# Altium footprint library 691 244 710 0xx.PcbLib: 7 footprints
Each footprint in its own frame and in the unit in brackets; x right, y up, seen from the top. Pads: shape width x height; smd on the part's side, far side on the other; paste and mask are expansions set on the pad; w line width, h text height; cw(c..) or ccw(c..) is an arc to the next point about the centre after c.
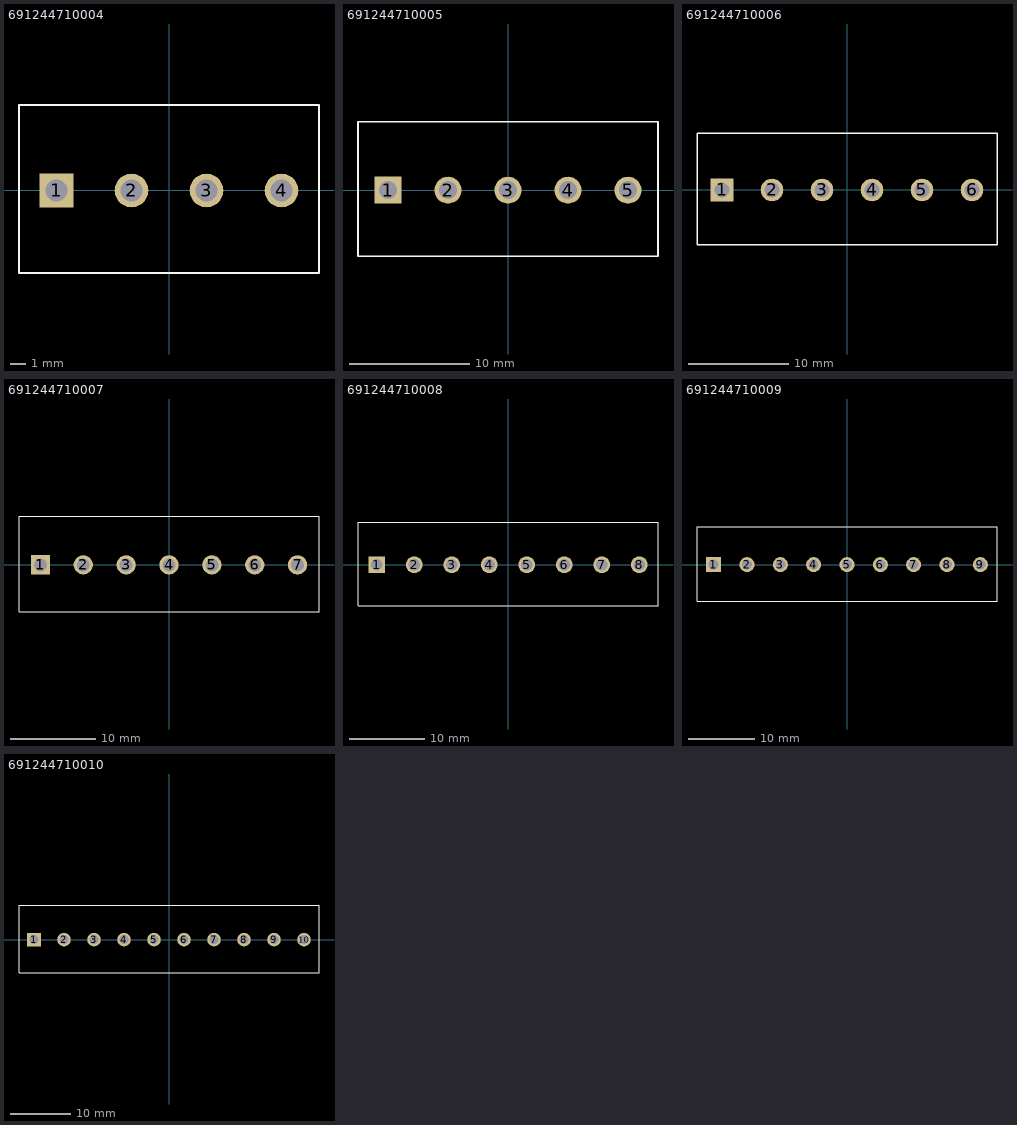
[diagram p0: the footprints below, top view; thin cyan lines are the x and y axes]

## 691244710004 [mm] "Serie 2447 - 5.00 mm _ 4 pins"
height 18
pads (4):
  rect 2.25x2.25 hole 1.5: 1(-7.5,0)
  round 2.25 hole 1.5: 2(-2.5,0) 3(2.5,0) 4(7.5,0)
Top Overlay:
  lines w0.127: -10,-5.5 -10,5.7 10,5.7 10,-5.5 -10,-5.5
3D body: height 18, standoff -4, extent -10,-5.5 10,5.7

## 691244710005 [mm] "Serie 2447 - 5.00 mm _ 5 pins"
height 18
pads (5):
  rect 2.25x2.25 hole 1.5: 1(-10,0)
  round 2.25 hole 1.5: 2(-5,0) 3(0,0) 4(5,0) 5(10,0)
Top Overlay:
  lines w0.127: -12.5,-5.5 -12.5,5.7 12.5,5.7 12.5,-5.5 -12.5,-5.5
3D body: height 18, standoff -4, extent -12.5,-5.5 12.5,5.7

## 691244710006 [mm] "Serie 2447 - 5.00 mm _ 6 pins"
height 18
pads (6):
  rect 2.25x2.25 hole 1.5: 1(-12.5,0)
  round 2.25 hole 1.5: 2(-7.5,0) 3(-2.5,0) 4(2.5,0) 5(7.5,0) 6(12.5,0)
Top Overlay:
  lines w0.127: -15,-5.5 -15,5.7 15,5.7 15,-5.5 -15,-5.5
3D body: height 18, standoff -4, extent -15,-5.5 15,5.7

## 691244710007 [mm] "Serie 2447 - 5.00 mm _ 7 pins"
height 18
pads (7):
  rect 2.25x2.25 hole 1.5: 1(-15,0)
  round 2.25 hole 1.5: 2(-10,0) 3(-5,0) 4(0,0) 5(5,0) 6(10,0) 7(15,0)
Top Overlay:
  lines w0.127: -17.5,-5.5 17.5,-5.5 17.5,5.7 -17.5,5.7 -17.5,-5.5
3D body: height 18, standoff -4, extent -17.5,-5.5 17.5,5.7

## 691244710008 [mm] "Serie 2447 - 5.00 mm _ 8 pins"
height 18
pads (8):
  rect 2.25x2.25 hole 1.5: 1(-17.5,0)
  round 2.25 hole 1.5: 2(-12.5,0) 3(-7.5,0) 4(-2.5,0) 5(2.5,0) 6(7.5,0) 7(12.5,0) 8(17.5,0)
Top Overlay:
  lines w0.127: -20,-5.5 20,-5.5 20,5.7 -20,5.7 -20,-5.5
3D body: height 18, standoff -4, extent -20,-5.5 20,5.7

## 691244710009 [mm] "Serie 2447 - 5.00 mm _ 9 pins"
height 18
pads (9):
  rect 2.25x2.25 hole 1.5: 1(-20,0)
  round 2.25 hole 1.5: 2(-15,0) 3(-10,0) 4(-5,0) 5(0,0) 6(5,0) 7(10,0) 8(15,0) 9(20,0)
Top Overlay:
  lines w0.127: -22.5,-5.5 22.5,-5.5 22.5,5.7 -22.5,5.7 -22.5,-5.5
3D body: height 18, standoff -4, extent -22.5,-5.5 22.5,5.7

## 691244710010 [mm] "Serie 2447 - 5.00 mm _ 10 pins"
height 18
pads (10):
  rect 2.25x2.25 hole 1.5: 1(-22.5,0)
  round 2.25 hole 1.5: 2(-17.5,0) 3(-12.5,0) 4(-7.5,0) 5(-2.5,0) 6(2.5,0) 7(7.5,0) 8(12.5,0) 9(17.5,0) 10(22.5,0)
Top Overlay:
  lines w0.127: -25,-5.5 25,-5.5 25,5.7 -25,5.7 -25,-5.5
3D body: height 18, standoff -4, extent -25,-5.5 25,5.7